# EAGLE library part 615016149521 (library 615008185221_Eagle_WR-MJ_rev20b)
WR-MJ Modular Jack Horizontal Plastic 8P8C Assembly Tab Up KIND PROPERTIES Quality Class:500 Mating cycles General Information Operating Temperature:-40 up to +85 °C Compliance: RoHS Electrical Properties IR 1:1.5A Working Voltage:120V (AC) Withstanding Voltage:1000V (AC) Contact Resistance:20mΩ RISO:500 MΩ Material Properties Insulator MateriaL:PBT Insulator Flammability Rating:UL94 V-0 Color:Black Contact Material Copper Alloy Contact Plating:Gold Contact Type:Stamped Shielding Material:Brass Shielding Plating:Nickel Packaging Properties Packaging:Tray <https://www.we-online.com/catalog/media/o64597v209%20Family_Con_WR-MJ_Horizontal_Plastic_6150xx149521_pf2.jpg> Details see: https://www.we-online.com/catalog/en/MJ_HORIZONTAL_PLASTIC_ASSEMBLY_8P8C_TAB_UP/? Updated by Yingchun,Shan 2020-01-06 2020 (C) Würth Elektronik
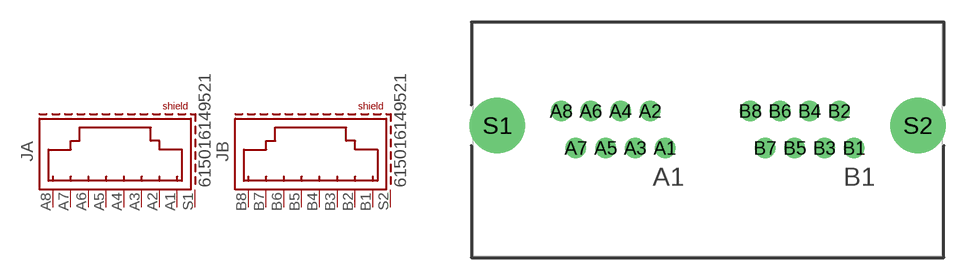
[diagram p54: symbol with the pads of 615016149521; footprint 615016149521]

Designator prefix J; gates A=8P8C_S B=8P8C_S

## 615016149521 (DATASHEET-URL: https://www.we-online.com/catalog/datasheet/615016149521.pdf; MOUNT: THT; PART-NUMBER: 615016149521; TYPE: Horizontal; VALUE: 615016149521; XPXC: 8P8C)  [615016149521]
A1  A:1  pas
A2  A:2  pas
A3  A:3  pas
A4  A:4  pas
A5  A:5  pas
A6  A:6  pas
A7  A:7  pas
A8  A:8  pas
B1  B:1  pas
B2  B:2  pas
B3  B:3  pas
B4  B:4  pas
B5  B:5  pas
B6  B:6  pas
B7  B:7  pas
B8  B:8  pas
S1  A:SHIELD  pas
S2  B:SHIELD  pas

## Footprint 615016149521 (pad centres in mm)
WR-MJ Modular Jack Horizontal Plastic 8P8C Assembly Tab Up
drill 0.9: A1 -2.93,-0.57; A2 -3.95,1.97; A3 -4.97,-0.57; A4 -5.99,1.97; A5 -7.01,-0.57; A6 -8.03,1.97; A7 -9.05,-0.57; A8 -10.07,1.97; B1 10.07,-0.57; B2 9.05,1.97; B3 8.03,-0.57; B4 7.01,1.97; B5 5.99,-0.57; B6 4.97,1.97; B7 3.95,-0.57; B8 2.93,1.97
drill 2.8: S1 -14.45,0.97; S2 14.45,0.97